# EAGLE library part KF10.7-0.5/0.6 (library MSA_lib)
Krystaly 10.7 Crystal filter
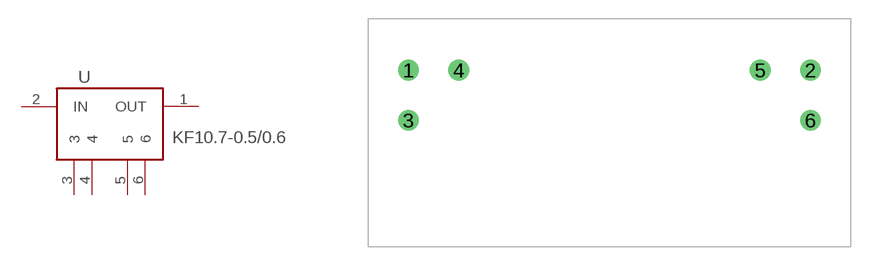
[diagram p17: symbol with the pads of KF-17; footprint KF-17]

Designator prefix U

## KF10.7-0.5/0.6  [KF-17]
1  OUT
2  IN
3  3
4  4
5  5
6  6

## Footprint KF-17 (pad centres in mm)
drill 1.1: 1 -16,5; 2 16,5; 3 -16,1; 4 -12,5; 5 12,5; 6 16,1